# Altium footprint library PCB - POTENTIOMETER - BOURNS PTV09A-4025F.PcbLib: 1 footprints
Each footprint in its own frame and in the unit in brackets; x right, y up, seen from the top. Pads: shape width x height; smd on the part's side, far side on the other; paste and mask are expansions set on the pad; w line width, h text height; cw(c..) or ccw(c..) is an arc to the next point about the centre after c.
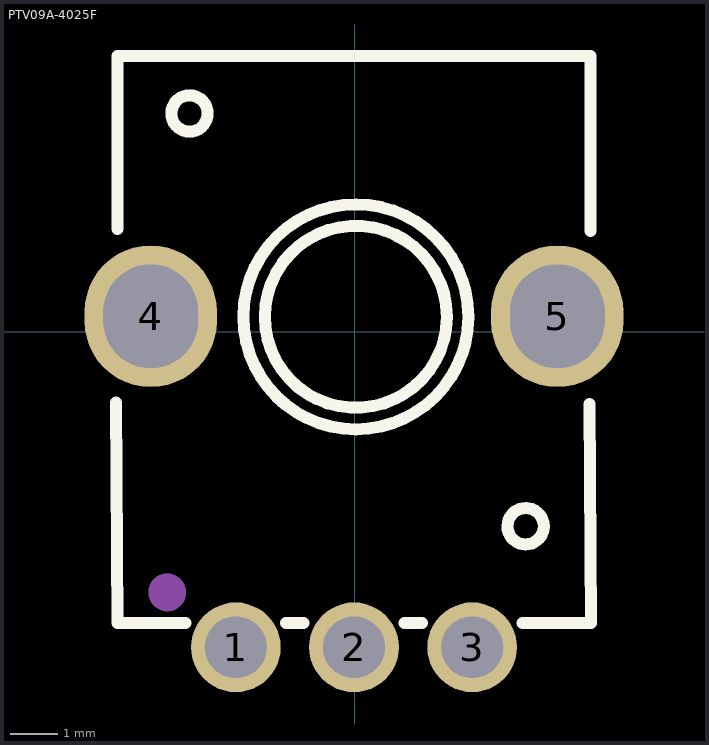
[diagram p0: the footprint, top view; thin cyan lines are the x and y axes]

## PTV09A-4025F [mm]
pads (5):
  round 1.9 hole 1.3 slot 1.305 at 0 deg paste+0 mask+0.051: 1(-2.515,-6.67) 2(-0.015,-6.67) 3(2.485,-6.67)
  oval 2.8x3 hole 2 slot 2.2 at 90 deg paste+0 mask+0.051: 4(-4.315,0.33) 5(4.285,0.33)
Top Overlay:
  lines w0.254: -5.045,-1.49 -5.015,-6.16 -3.58,-6.16 ; -5.015,2.18 -5.015,5.84 4.985,5.84 4.985,2.13 ; -3.879,4.62 ccw(c-3.495,4.62) -3.879,4.624 ; -2.355,0.32 ccw(c0.025,0.32) -2.355,0.326 ; -1.9,0.32 ccw(c0.025,0.321) -1.9,0.325 ; -1.45,-6.16 -1.08,-6.16 ; 1.05,-6.16 1.42,-6.16 ; 3.231,-4.11 ccw(c3.615,-4.11) 3.231,-4.106 ; 3.55,-6.16 4.995,-6.16 4.965,-1.52
Mechanical 29:
  lines w0.4: -4.165,-5.51 ccw(c-3.965,-5.51) -4.165,-5.505
  text "'.Designator'" at 0.127,0.762 h1.52
3D body "User Library-PTV09A-4.STEP": height 34.14, standoff -1.13, extent -5.65,-6.758 5.65,5.842